# Altium footprint library PcbLib1.PcbLib: 38 footprints (part 2 of 3)
Each footprint in its own frame and in the unit in brackets; x right, y up, seen from the top. Pads: shape width x height; smd on the part's side, far side on the other; paste and mask are expansions set on the pad; w line width, h text height; cw(c..) or ccw(c..) is an arc to the next point about the centre after c.
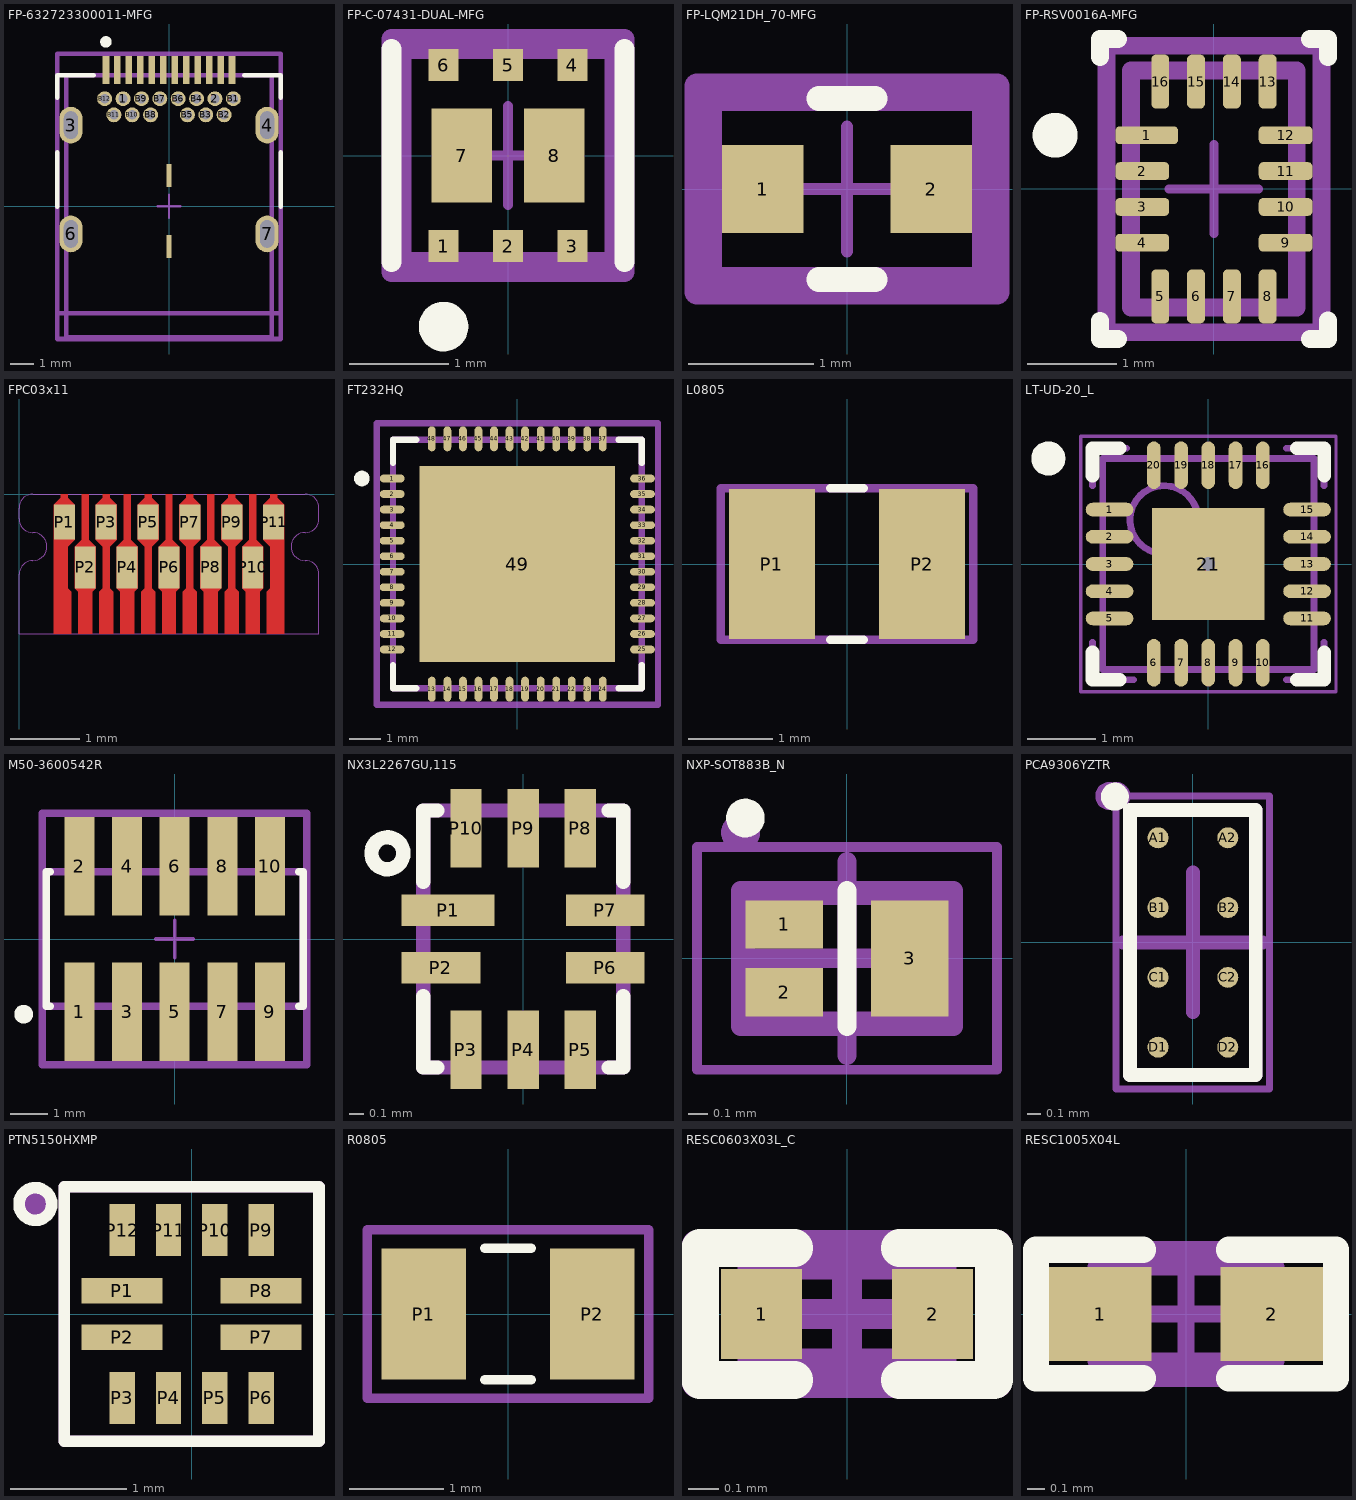
[diagram p1: the footprints below, top view; thin cyan lines are the x and y axes]

## FP-632723300011-MFG [mm]
pads (32):
  round 0.65 hole 0.4 paste-1000 mask+0: 1(-2,4.68) 2(2,4.68) B1(2.8,4.68) B2(2.4,3.98) B3(1.6,3.98) B4(1.2,4.68) B5(0.8,3.98) B6(0.4,4.68) B7(-0.4,4.68) B8(-0.8,3.98) B9(-1.2,4.68) B10(-1.6,3.98) B11(-2.4,3.98) B12(-2.8,4.68)
  rrect100% 1x1.6 hole 1.2 slot 0.6 at 0 deg paste-1000 mask+0: 3(-4.27,3.53) 4(4.27,3.53) 6(-4.27,-1.2) 7(4.27,-1.2)
  rect 0.2x1 smd paste+0 mask+0: 5(0,1.35) 8(0,-1.75)
  rect 0.3x1.2 smd paste+0 mask+0: A1(-2.75,5.93) A2(-2.25,5.93) A3(-1.75,5.93) A4(-1.25,5.93) A5(-0.75,5.93) A6(-0.25,5.93) A7(0.25,5.93) A8(0.75,5.93) A9(1.25,5.93) A10(1.75,5.93) A11(2.25,5.93) A12(2.75,5.93)
Top Overlay:
  circle w0.25: c-2.745,7.155 r0.125
  lines w0.2: -4.87,-0.025 -4.87,2.355 ; -4.87,4.73 -4.87,5.7 -3.275,5.7 ; 3.275,5.7 4.87,5.7 4.87,4.73 ; 4.87,-0.025 4.87,2.355
Top Assembly:
  lines w0.2: -4.87,-5.775 -4.87,6.63 4.87,6.63 4.87,-5.775 -4.87,-5.775
  text ".Designator" at 0,0.427 h1
Top 3D Body:
  lines w0.2: -4.87,-4.65 4.87,-4.65 ; -4.47,-5.7 -4.47,5.7 4.47,5.7 4.47,-5.7 -4.47,-5.7
Top Courtyard:
  lines w0.2: -4.87,-5.775 -4.87,6.63 4.87,6.63 4.87,-5.775 -4.87,-5.775
Top Component Center:
  lines w0.1: -0.5,0 0.5,0 ; 0,-0.5 0,0.5
3D body "Conn_Wurth_632723300011_eec.STEP": height 0.25, standoff 0, extent -4.87,-5.775 4.87,6.63

## FP-C-07431-DUAL-MFG [mm]
pads (8):
  rect 0.3x0.325 smd paste+0 mask+0: 1(-0.65,-0.913) 2(0,-0.913) 3(0.65,-0.913) 4(0.65,0.913) 5(0,0.913) 6(-0.65,0.913)
  rect 0.613x0.95 smd paste+0 mask+0: 7(-0.466,0) 8(0.466,0)
Top Overlay:
  circle w0.25: c-0.65,-1.725 r0.125
  lines w0.2: -1.175,-1.075 -1.175,1.075 ; 1.175,-1.075 1.175,1.075
Top Designator:
  text ".Designator" at 0,0.188 h1
Top Assembly:
  lines w0.2: -1.175,-1.175 -1.175,1.175 1.175,1.175 1.175,-1.175 -1.175,-1.175
Top Component Outline:
  lines w0.1: -1.15,-1.1 -1.15,1.1 1.1,1.1 1.1,-1.15 -1.1,-1.15 -1.15,-1.1
Top 3D Body:
  lines w0.2: -1.075,-1.075 -1.075,1.075 1.075,1.075 1.075,-1.075 -1.075,-1.075
Top Courtyard:
  lines w0.2: -1.175,-1.175 -1.175,1.175 1.175,1.175 1.175,-1.175 -1.175,-1.175
Top Component Center:
  lines w0.1: -0.5,0 0.5,0 ; 0,-0.5 0,0.5
3D body "Trans_Vishay_SIA931DJ-T1-GE3_eec.STEP": height 0.25, standoff 0, extent -1.175,-1.175 1.175,1.175

## FP-LQM21DH_70-MFG [mm]
pads (2):
  rect 0.65x0.7 smd paste+0 mask+0: 1(-0.675,0) 2(0.675,0)
Top Overlay:
  lines w0.2: -0.225,-0.725 0.225,-0.725 ; -0.225,0.725 0.225,0.725
Top Designator:
  text ".Designator" at 0,0.188 h1
Top Assembly:
  lines w0.2: -1.2,-0.825 1.2,-0.825 1.2,0.825 -1.2,0.825 -1.2,-0.825
Top Component Outline:
  lines w0.1: -1.15,-0.8 1.15,-0.8 1.15,0.75 -1.15,0.75 -1.15,-0.8
Top 3D Body:
  lines w0.2: -1.1,-0.725 1.1,-0.725 1.1,0.725 -1.1,0.725 -1.1,-0.725
Top Courtyard:
  lines w0.2: -1.2,-0.825 1.2,-0.825 1.2,0.825 -1.2,0.825 -1.2,-0.825
Top Component Center:
  lines w0.1: -0.5,0 0.5,0 ; 0,-0.5 0,0.5
3D body "Ind_Murata_LQM21DH100M70L_eec.STEP": height 0.25, standoff 0, extent -1.2,-0.825 1.2,0.825

## FP-RSV0016A-MFG [mm]
pads (16):
  rrect50% 0.7x0.2 smd paste+0 mask+0: 1(-0.75,0.6)
  rrect50% 0.6x0.2 smd paste+0 mask+0: 2(-0.8,0.2) 3(-0.8,-0.2) 4(-0.8,-0.6) 9(0.8,-0.6) 10(0.8,-0.2) 11(0.8,0.2) 12(0.8,0.6)
  rrect50% 0.2x0.6 smd paste+0 mask+0: 5(-0.6,-1.2) 6(-0.2,-1.2) 7(0.2,-1.2) 8(0.6,-1.2) 13(0.6,1.2) 14(0.2,1.2) 15(-0.2,1.2) 16(-0.6,1.2)
Top Overlay:
  circle w0.25: c-1.775,0.6 r0.125
  lines w0.2: -1.274,-1.675 -1.074,-1.675 ; -1.274,-1.671 -1.274,-1.471 ; -1.273,1.475 -1.273,1.675 ; -1.27,1.675 -1.07,1.675 ; 1.072,-1.674 1.272,-1.674 ; 1.074,1.675 1.274,1.675 ; 1.275,-1.669 1.275,-1.469 ; 1.275,1.472 1.275,1.672
Top Assembly:
  lines w0.2: -1.2,-1.6 1.2,-1.6 1.2,1.6 -1.2,1.6 -1.2,-1.6
  text ".Designator" at 0,0.188 h1
Top 3D Body:
  lines w0.2: -0.925,-1.325 0.925,-1.325 0.925,1.325 -0.925,1.325 -0.925,-1.325
Top Courtyard:
  lines w0.2: -1.2,-1.6 1.2,-1.6 1.2,1.6 -1.2,1.6 -1.2,-1.6
Top Component Center:
  lines w0.1: -0.5,0 0.5,0 ; 0,-0.5 0,0.5
3D body "IC_Texas_Instruments_TMUX1108RSVR_eec.STEP": height 0.25, standoff 0, extent -1.2,-1.6 1.2,1.6

## FPC03x11 [mm]
pads (11):
  rect 0.3x0.5 smd paste-2539.97: P1(0.65,-0.4) P3(1.25,-0.4) P5(1.85,-0.4) P7(2.45,-0.4) P9(3.05,-0.4) P11(3.65,-0.4)
  rect 0.3x0.6 smd paste-2539.97: P2(0.95,-1.05) P4(1.55,-1.05) P6(2.15,-1.05) P8(2.75,-1.05) P10(3.35,-1.05)
Top Layer:
  region: 0.5,-0.15 0.6,-0.05 0.6,0 0.7,0 0.7,-0.05 0.8,-0.15 0.8,-0.65 0.7,-0.75 0.7,-1.35 0.75,-1.4 0.75,-2 0.5,-2
  region: 0.8,-0.75 0.9,-0.65 0.9,0 1,0 1,-0.65 1.1,-0.75 1.1,-1.35 1.05,-1.4 1.05,-2 0.85,-2 0.85,-1.4 0.8,-1.35
  region: 1.1,-0.15 1.2,-0.05 1.2,0 1.3,0 1.3,-0.05 1.4,-0.15 1.4,-0.65 1.3,-0.75 1.3,-1.35 1.35,-1.4 1.35,-2 1.15,-2 1.15,-1.4 1.2,-1.35 1.2,-0.75 1.1,-0.65
  region: 1.4,-0.75 1.5,-0.65 1.5,0 1.6,0 1.6,-0.65 1.7,-0.75 1.7,-1.35 1.65,-1.4 1.65,-2 1.45,-2 1.45,-1.4 1.4,-1.35
  region: 1.7,-0.15 1.8,-0.05 1.8,0 1.9,0 1.9,-0.05 2,-0.15 2,-0.65 1.9,-0.75 1.9,-1.35 1.95,-1.4 1.95,-2 1.75,-2 1.75,-1.4 1.8,-1.35 1.8,-0.75 1.7,-0.65
  region: 2,-0.75 2.1,-0.65 2.1,0 2.2,0 2.2,-0.65 2.3,-0.75 2.3,-1.35 2.25,-1.4 2.25,-2 2.05,-2 2.05,-1.4 2,-1.35
  region: 2.3,-0.15 2.4,-0.05 2.4,0 2.5,0 2.5,-0.05 2.6,-0.15 2.6,-0.65 2.5,-0.75 2.5,-1.35 2.55,-1.4 2.55,-2 2.35,-2 2.35,-1.4 2.4,-1.35 2.4,-0.75 2.3,-0.65
  region: 2.6,-0.75 2.7,-0.65 2.7,0 2.8,0 2.8,-0.65 2.9,-0.75 2.9,-1.35 2.85,-1.4 2.85,-2 2.65,-2 2.65,-1.4 2.6,-1.35
  region: 2.9,-0.15 3,-0.05 3,0 3.1,0 3.1,-0.05 3.2,-0.15 3.2,-0.65 3.1,-0.75 3.1,-1.35 3.15,-1.4 3.15,-2 2.95,-2 2.95,-1.4 3,-1.35 3,-0.75 2.9,-0.65
  region: 3.2,-0.75 3.3,-0.65 3.3,0 3.4,0 3.4,-0.65 3.5,-0.75 3.5,-1.35 3.45,-1.4 3.45,-2 3.25,-2 3.25,-1.4 3.2,-1.35
  region: 3.5,-0.15 3.6,-0.05 3.6,0 3.7,0 3.7,-0.05 3.8,-0.15 3.8,-2 3.55,-2 3.55,-1.4 3.6,-1.35 3.6,-0.75 3.5,-0.65
Top Solder:
  rectangle: 0,-2 4.3,0
Top Component Outline:
  lines w0.01: 0,-2 0,-1.15 cw(c0.2,-1.15) 0.2,-0.95 ccw(c0.2,-0.75) 0.4,-0.75 ccw(c0.2,-0.75) 0.2,-0.55 cw(c0.2,-0.35) 0,-0.35 0,-0.2 cw(c0.2,-0.2) 0.2,0 4.1,0 cw(c4.1,-0.2) 4.3,-0.2 4.3,-0.35 cw(c4.1,-0.35) 4.1,-0.55 ccw(c4.1,-0.75) 3.9,-0.75 ccw(c4.1,-0.75) 4.1,-0.95 cw(c4.1,-1.15) 4.3,-1.15 4.3,-2 0,-2

## FT232HQ [mm]
pads (49):
  rrect100% 0.8x0.25 smd paste+0 mask+0: 1(-4.025,2.75) 2(-4.025,2.25) 3(-4.025,1.75) 4(-4.025,1.25) 5(-4.025,0.75) 6(-4.025,0.25) 7(-4.025,-0.25) 8(-4.025,-0.75) 9(-4.025,-1.25) 10(-4.025,-1.75) 11(-4.025,-2.25) 12(-4.025,-2.75) 25(4.025,-2.75) 26(4.025,-2.25) 27(4.025,-1.75) 28(4.025,-1.25) 29(4.025,-0.75) 30(4.025,-0.25) 31(4.025,0.25) 32(4.025,0.75) 33(4.025,1.25) 34(4.025,1.75) 35(4.025,2.25) 36(4.025,2.75)
  rrect100% 0.25x0.8 smd paste+0 mask+0: 13(-2.75,-4.025) 14(-2.25,-4.025) 15(-1.75,-4.025) 16(-1.25,-4.025) 17(-0.75,-4.025) 18(-0.25,-4.025) 19(0.25,-4.025) 20(0.75,-4.025) 21(1.25,-4.025) 22(1.75,-4.025) 23(2.25,-4.025) 24(2.75,-4.025) 37(2.75,4.025) 38(2.25,4.025) 39(1.75,4.025) 40(1.25,4.025) 41(0.75,4.025) 42(0.25,4.025) 43(-0.25,4.025) 44(-0.75,4.025) 45(-1.25,4.025) 46(-1.75,4.025) 47(-2.25,4.025) 48(-2.75,4.025)
  rect 6.29x6.29 smd paste+0 mask+0: 49(0,0)
Top Overlay:
  circle w0.25: c-5,2.75 r0.125
  lines w0.2: -4,-3.25 -4,-4 -3.25,-4 ; -4,3.25 -4,4 -3.25,4 ; 3.25,-4 4,-4 4,-3.25 ; 3.25,4 4,4 4,3.25
Top Assembly:
  lines w0.2: -4.525,-4.525 4.525,-4.525 4.525,4.525 -4.525,4.525 -4.525,-4.525
  text ".Designator" at 0,0.188 h1
Top 3D Body:
  lines w0.2: -4,-4 4,-4 4,4 -4,4 -4,-4
Top Courtyard:
  lines w0.2: -4.525,-4.525 4.525,-4.525 4.525,4.525 -4.525,4.525 -4.525,-4.525
Top Component Center:
  lines w0.1: -0.5,0 0.5,0 ; 0,-0.5 0,0.5
3D body "IC_FTDI_FT232HQ-REEL_eec.STEP": height 0.25, standoff 0, extent -4.525,-4.525 4.525,4.525

## L0805 [mm]
height 0.9
pads (2):
  rect 1.02x1.78 smd: P1(-0.89,0) P2(0.89,0)
Top Overlay:
  lines w0.1: -0.2,-0.9 0.2,-0.9 ; -0.2,0.9 0.2,0.9
Top Designator:
  text ".Designator" at 0.1,-0.2 h0.6
Top Assembly:
  lines w0.1: -1.5,-0.9 1.5,-0.9 1.5,0.9 -1.5,0.9 -1.5,-0.9
Top Component Outline:
  lines w0.1: -1.5,-0.9 1.5,-0.9 1.5,0.9 -1.5,0.9 -1.5,-0.9
3D body "74479023.stp": height 1.25, standoff 0, extent -1,-0.625 1,0.625

## LT-UD-20_L [mm] "QFN, 20-Leads, Body 3.1x3.1mm, Pitch 0.4mm, Thermal Pad 1.65x1.65mm, IPC High Density"
height 0.8
pads (21):
  oval 0.7x0.2 smd: 1(-1.45,0.8) 2(-1.45,0.4) 3(-1.45,0) 4(-1.45,-0.4) 5(-1.45,-0.8) 11(1.45,-0.8) 12(1.45,-0.4) 13(1.45,0) 14(1.45,0.4) 15(1.45,0.8)
  oval 0.2x0.7 smd: 6(-0.8,-1.45) 7(-0.4,-1.45) 8(0,-1.45) 9(0.4,-1.45) 10(0.8,-1.45) 16(0.8,1.45) 17(0.4,1.45) 18(0,1.45) 19(-0.4,1.45) 20(-0.8,1.45)
  rect 1.65x1.65 smd: 21(0,0)
via 0,0 diameter 0.5 hole 0.2
Top Overlay:
  circle w0.25: c-2.35,1.55 r0.125
  lines w0.2: -1.7,-1.3 -1.7,-1.7 -1.3,-1.7 ; -1.7,1.3 -1.7,1.7 -1.3,1.7 ; 1.3,-1.7 1.7,-1.7 1.7,-1.3 ; 1.3,1.7 1.7,1.7 1.7,1.3
Top Designator:
  text ".Designator" at 0.1,0.3 h0.6
Top Assembly:
  circle w0.1: c-2.35,1.55 r0.18
  lines w0.1: -1.7,-1.15 -1.7,-1.7 -1.1,-1.7 ; -1.7,1.15 -1.7,1.7 -1.2,1.7 ; 1.15,-1.7 1.7,-1.7 1.7,-1.15 ; 1.15,1.7 1.7,1.7 1.7,1.15
Top Component Outline:
  circle w0.1: c-2.35,1.55 r0.18
  lines w0.1: -1.7,-1.15 -1.7,-1.7 -1.1,-1.7 ; -1.7,1.15 -1.7,1.7 -1.2,1.7 ; 1.15,-1.7 1.7,-1.7 1.7,-1.15 ; 1.15,1.7 1.7,1.7 1.7,1.15
Top 3D Body:
  circle w0.1: c-0.65,0.65 r0.5
  lines w0.1: -1.55,-1.55 1.55,-1.55 1.55,1.55 -1.55,1.55 -1.55,-1.55
Top Courtyard:
  lines w0.05: -1.875,-1.875 1.875,-1.875 1.875,1.875 -1.875,1.875 -1.875,-1.875
  lines w0.1: -0.5,0 0.5,0 ; 0,-0.5 0,0.5
3D body: height 0.8, standoff 0, extent -1.55,-1.55 1.55,1.55

## M50-3600542R [mm]
pads (10):
  rect 0.8x2.62 smd paste+0 mask+0: 1(-2.54,-1.94) 2(-2.54,1.94) 3(-1.27,-1.94) 4(-1.27,1.94) 5(0,-1.94) 6(0,1.94) 7(1.27,-1.94) 8(1.27,1.94) 9(2.54,-1.94) 10(2.54,1.94)
Top Overlay:
  circle w0.25: c-4.025,-2.005 r0.125
  lines w0.2: -3.315,-1.8 -3.425,-1.8 -3.425,1.8 -3.315,1.8 ; 3.315,-1.8 3.425,-1.8 3.425,1.8 3.315,1.8
Top Assembly:
  lines w0.2: -3.525,-3.35 -3.525,3.35 3.525,3.35 3.525,-3.35 -3.525,-3.35
  text ".Designator" at 0,0.188 h1
Top 3D Body:
  lines w0.2: -3.425,-1.8 -3.425,1.8 3.425,1.8 3.425,-1.8 -3.425,-1.8
Top Courtyard:
  lines w0.2: -3.525,-3.35 -3.525,3.35 3.525,3.35 3.525,-3.35 -3.525,-3.35
Top Component Center:
  lines w0.1: -0.5,0 0.5,0 ; 0,-0.5 0,0.5
3D body "Conn_Harwin_M50-3600542R_eec.STEP": height 0.25, standoff 0, extent -3.525,-3.35 3.525,3.35

## NX3L2267GU,115 [mm]
height 1
pads (10):
  rect 0.65x0.22 smd: P1(-0.525,0.2)
  rect 0.55x0.22 smd: P2(-0.575,-0.2) P6(0.575,-0.2) P7(0.575,0.2)
  rect 0.22x0.55 smd: P3(-0.4,-0.775) P4(0,-0.775) P5(0.4,-0.775) P8(0.4,0.775) P9(0,0.775) P10(-0.4,0.775)
Top Overlay:
  circle w0.1: c-0.95,0.6 r0.112
  lines w0.1: -0.7,-0.4 -0.7,-0.9 -0.6,-0.9 ; -0.7,0.4 -0.7,0.9 -0.6,0.9 ; 0.6,-0.9 0.7,-0.9 0.7,-0.4 ; 0.6,0.9 0.7,0.9 0.7,0.4
Top Designator:
  text ".Designator" at 0.1,0.3 h0.6
Top Assembly:
  lines w0.1: -0.7,-0.9 0.7,-0.9 0.7,0.9 -0.7,0.9 -0.7,-0.9
Top Component Outline:
  lines w0.1: -0.7,-0.9 0.7,-0.9 0.7,0.9 -0.7,0.9 -0.7,-0.9
3D body: height 0.5, standoff 0, extent -0.7,-0.9 0.7,0.9

## NXP-SOT883B_N [mm] "SON, 3-Leads, Body 1.05x0.65mm, Pitch 0.35mm, IPC Medium Density"
height 0.4
pads (3):
  rect 0.4x0.25 smd: 1(-0.325,0.175) 2(-0.325,-0.175)
  rect 0.4x0.6 smd: 3(0.325,0)
Top Overlay:
  circle w0.1: c-0.525,0.725 r0.05
  lines w0.1: 0,-0.35 0,0.35
Top Designator:
  text ".Designator" at 0.1,0.3 h0.6
Top Assembly:
  circle w0.1: c-0.55,0.65 r0.05
  lines w0.1: -0.55,-0.35 0.55,-0.35 0.55,0.35 -0.55,0.35 -0.55,-0.35
Top Component Outline:
  circle w0.1: c-0.55,0.65 r0.05
  lines w0.1: -0.55,-0.35 0.55,-0.35 0.55,0.35 -0.55,0.35 -0.55,-0.35
Top 3D Body:
  lines w0.1: -0.525,-0.325 -0.525,0.325 0.525,0.325 0.525,-0.325 -0.525,-0.325
Top Courtyard:
  lines w0.05: -0.775,-0.575 -0.775,0.575 0.775,0.575 0.775,-0.575 -0.775,-0.575
  lines w0.1: -0.5,0 0.5,0 ; 0,-0.5 0,0.5
3D body: height 0.4, standoff 0.04, extent -0.525,-0.325 0.525,0.325

## PCA9306YZTR [mm] "BGA, 8-Leads, Body 1.9x0.9mm, Pitch 0.5mm"
height 0.63
pads (8):
  round 0.15 smd: A1(-0.25,0.75) A2(0.25,0.75) B1(-0.25,0.25) B2(0.25,0.25) C1(-0.25,-0.25) C2(0.25,-0.25) D1(-0.25,-0.75) D2(0.25,-0.75)
Top Overlay:
  circle w0.1: c-0.56,1.045 r0.05
  lines w0.1: -0.45,-0.95 -0.45,0.95 0.45,0.95 0.45,-0.95 -0.45,-0.95
Top Designator:
  text ".Designator" at 0.1,0.3 h0.6
Top Assembly:
  circle w0.1: c-0.55,1.05 r0.05
  lines w0.1: -0.45,-0.95 0.45,-0.95 0.45,0.95 -0.45,0.95 -0.45,-0.95
Top Component Outline:
  circle w0.1: c-0.6,1.05 r0.05
  lines w0.1: -0.45,0.9 -0.45,-0.95 0.45,-0.95 0.45,0.95 -0.45,0.95
Top 3D Body:
  lines w0.1: -0.45,-0.95 -0.45,0.95 0.45,0.95 0.45,-0.95 -0.45,-0.95
Top Courtyard:
  lines w0.05: -0.55,-1.05 -0.55,1.05 0.55,1.05 0.55,-1.05 -0.55,-1.05
  lines w0.1: -0.5,0 0.5,0 ; 0,-0.5 0,0.5
3D body: height 0.63, standoff 0.15, extent -0.45,-0.95 0.45,0.95

## PTN5150HXMP [mm] "USB Interface IC USB Type C (CC) control logic"
height 0.35
pads (12):
  rect 0.7x0.22 smd: P1(-0.6,0.2) P2(-0.6,-0.2) P7(0.6,-0.2) P8(0.6,0.2)
  rect 0.22x0.45 smd: P3(-0.6,-0.725) P4(-0.2,-0.725) P5(0.2,-0.725) P6(0.6,-0.725) P9(0.6,0.725) P10(0.2,0.725) P11(-0.2,0.725) P12(-0.6,0.725)
Top Overlay:
  circle w0.1: c-1.35,0.95 r0.141
  lines w0.1: -1.1,-1.1 -1.1,1.1 1.1,1.1 1.1,-1.1 -1.1,-1.1
Top Designator:
  text ".Designator" at 0.1,0.3 h0.6
Top Assembly:
  circle w0.254: c-1.355,0.959 r0.039
  lines w0.1: -1.1,-1.1 -1.1,1.1 1.1,1.1 1.1,-1.1 -1.1,-1.1
Top Component Outline:
  lines w0.1: -1.1,-1.1 -1.1,1.1 1.1,1.1 1.1,-1.1 -1.1,-1.1
3D body: height 0.35, standoff 0, extent -0.8,-0.8 0.8,0.8

## R0805 [mm]
height 0.6
pads (2):
  rect 0.9x1.4 smd: P1(-0.9,0) P2(0.9,0)
Top Overlay:
  lines w0.1: -0.25,-0.7 0.25,-0.7 ; -0.25,0.7 0.25,0.7
Top Designator:
  text ".Designator" at 0.1,-0.2 h0.6
Top Assembly:
  lines w0.1: -1.5,-0.9 1.5,-0.9 1.5,0.9 -1.5,0.9 -1.5,-0.9
Top Component Outline:
  lines w0.1: -1.5,-0.9 1.5,-0.9 1.5,0.9 -1.5,0.9 -1.5,-0.9
3D body "User Library-CR2012-0805.step": height 0.6, standoff 0, extent -1,-0.625 1,0.625

## RESC0603X03L_C [mm]
pads (2):
  rect 0.27x0.3 smd: 1(-0.285,0) 2(0.285,0)
Top Overlay:
  lines w0.125: -0.175,-0.22 -0.49,-0.22 -0.49,0.22 -0.175,0.22 ; 0.175,-0.22 0.49,-0.22 0.49,0.22 0.175,0.22
Top Designator:
  text ".Designator" at -0.306,0.268 h0.3
Top Component Outline:
  lines w0.1: -0.315,-0.165 -0.315,0.165 0.315,0.165 0.315,-0.165 -0.315,-0.165
Top Courtyard:
  lines w0.1: -0.165,0 0.165,0 ; 0,-0.165 0,0.165 ; -0.5,-0.23 -0.5,0.23 0.5,0.23 0.5,-0.23 -0.5,-0.23
3D body "User Library-res0201-1.step": height 0.23, standoff 0, extent -0.3,-0.15 0.3,0.15

## RESC1005X04L [mm]
pads (2):
  rect 0.6x0.55 smd: 1(-0.5,0) 2(0.5,0)
Top Overlay:
  lines w0.152: -0.25,-0.375 -0.875,-0.375 -0.875,0.375 -0.25,0.375 ; 0.25,-0.375 0.875,-0.375 0.875,0.375 0.25,0.375
Top Designator:
  text ".Designator" at -0.432,-0.152 h0.3
Top Component Outline:
  lines w0.1: -0.525,-0.275 0.525,-0.275 0.525,0.275 -0.525,0.275 -0.525,-0.275
Top Courtyard:
  lines w0.1: -0.275,0 0.275,0 ; 0,-0.275 0,0.275 ; -0.875,-0.375 -0.875,0.375 0.875,0.375 0.875,-0.375 -0.875,-0.375
3D body "User Library-res0402-1.step": height 0.3, standoff 0, extent -0.5,-0.25 0.5,0.25